# EAGLE library part 82C250SMD (library Philips-semiconductors2)
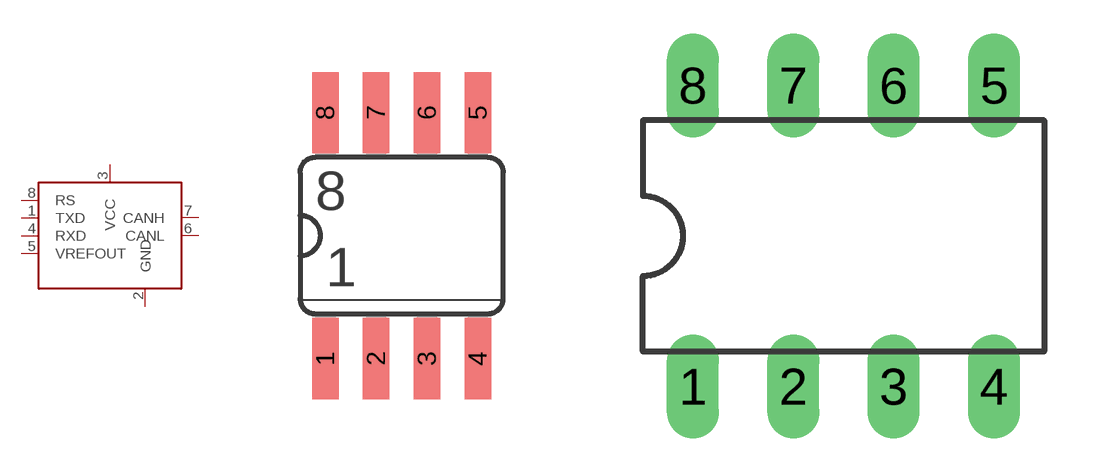
[diagram p5: symbol with the pads of SOT505-1; footprints SOT505-1, DIL08]

Designator prefix IC

## 82C250SMDSMD  [SOT505-1]
1  TXD  in
2  GND  sup
3  VCC  sup
4  RXD  out
5  VREFOUT  out
6  CANL
7  CANH
8  RS  in

## 82C250SMDDIL  [DIL08]
Pads as for SOT505-1

## Footprint SOT505-1 (pad centres in mm)
smd 0.66 x 2.032: 1 -1.905,-3.073; 2 -0.635,-3.073; 3 0.635,-3.073; 4 1.905,-3.073; 5 1.905,3.073; 6 0.635,3.073; 7 -0.635,3.073; 8 -1.905,3.073

## Footprint DIL08 (pad centres in mm)
drill 0.813 long: 1 -3.81,-3.81; 2 -1.27,-3.81; 3 1.27,-3.81; 4 3.81,-3.81; 5 3.81,3.81; 6 1.27,3.81; 7 -1.27,3.81; 8 -3.81,3.81